# EAGLE library part ICL3223CAZ (library Intersil_By_element14_Batch_1)
RS-232 Transmitters/Receivers
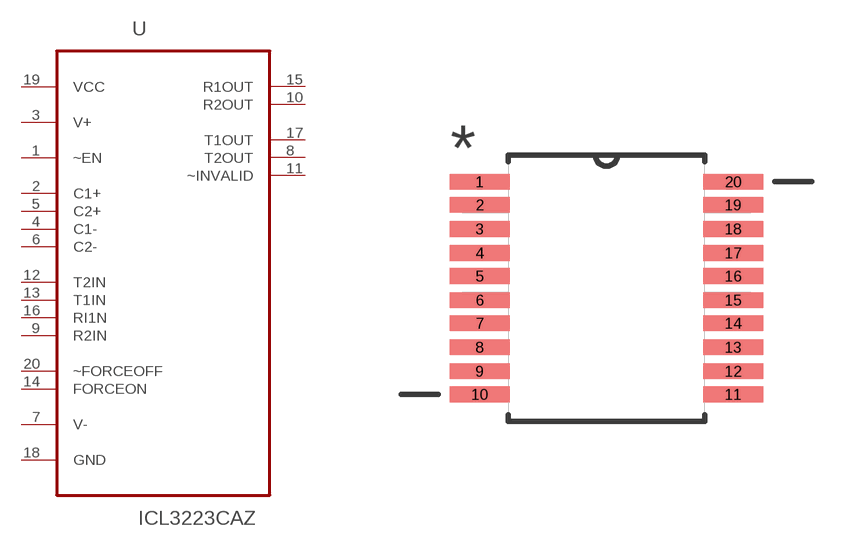
[diagram p165: symbol with the pads of SOP65P777X200-20N; footprint SOP65P777X200-20N]

Designator prefix U

## ICL3223CAZ (MPN: ICL3223CAZ; OC_FARNELL: 1561965; OC_NEWARK: 11J8855; PACKAGE: SSOP-20; SUPPLIER: INTERSIL)  [SOP65P777X200-20N]
1  ~EN  in
2  C1+  in
3  V+  pwr
4  C1-  in
5  C2+  in
6  C2-  in
7  V-  pwr
8  T2OUT  out
9  R2IN  in
10  R2OUT  out
11  ~INVALID  out
12  T2IN  in
13  T1IN  in
14  FORCEON  in
15  R1OUT  out
16  RI1N  in
17  T1OUT  out
18  GND  pas
19  VCC  pwr
20  ~FORCEOFF  pas

## Footprint SOP65P777X200-20N (pad centres in mm)
smd 1.651 x 0.432: 1 -3.48,2.921; 2 -3.48,2.286; 3 -3.48,1.626; 4 -3.48,0.965; 5 -3.48,0.33; 6 -3.48,-0.33; 7 -3.48,-0.965; 8 -3.48,-1.626; 9 -3.48,-2.286; 10 -3.48,-2.921; 11 3.48,-2.921; 12 3.48,-2.286; 13 3.48,-1.626; 14 3.48,-0.965; 15 3.48,-0.33; 16 3.48,0.33; 17 3.48,0.965; 18 3.48,1.626; 19 3.48,2.286; 20 3.48,2.921